# Altium schematic symbol library CRCW0805820KFKEA.SchLib: 1 symbol
Pins are listed as number, name and electrical type; pins without a type are passive.

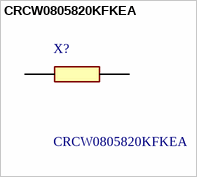
[diagram p0: symbol CRCW0805820KFKEA]

## CRCW0805820KFKEA
designator X?
Vishay CRCW Series Thick Film Surface Mount Resistor 805 Case 820k +/-1% 0.125W +/-100ppm/C; Geometry.Height: 0.5mm; Mouser Part Number: 71-CRCW0805820KFKEA; Mouser Price/Stock: https://www.mouser.com/Search/Refine.aspx?Keyword=71-CRCW0805820KFKEA; Manufacturer_Name: Vishay; Manufacturer_Part_Number: CRCW0805820KFKEA; Datasheet Link: https://componentsearchengine.com/Datasheets/1/CRCW0805820KFKEA.pdf
footprint RESC2012X50N
pins: 1, 2